# Altium schematic symbol library MasterLib.SchLib: 220 symbols (part 1 of 2)
Pins are listed as number, name and electrical type; pins without a type are passive.

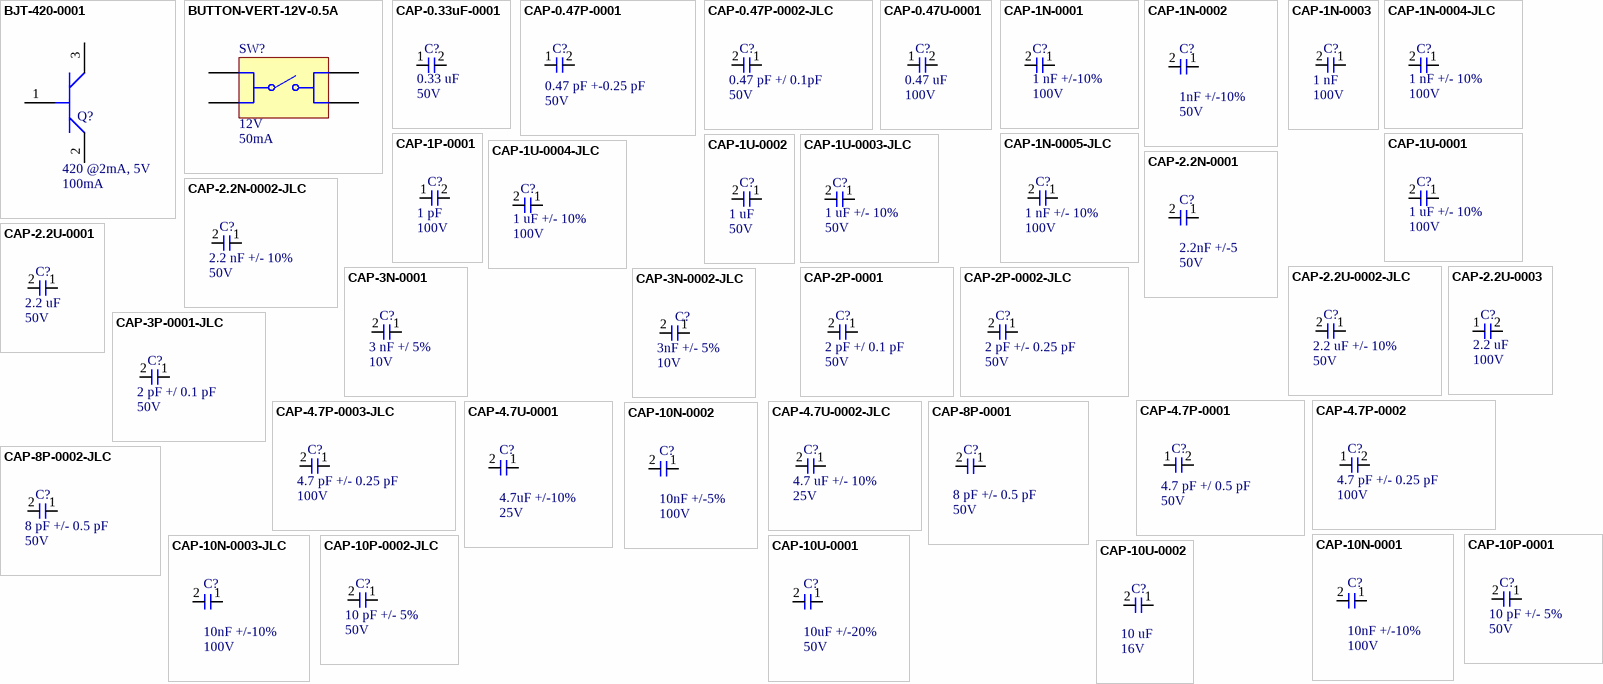
[diagram p0: symbols BJT-420-0001 to CAP-10U-0002]

## BJT-420-0001
designator Q?, comment hFE: 420 @2mA, 5V  Ic: 100mA  (hidden comment: BC847C,235)
Bipolar (BJT) Transistor NPN 45 V 100 mA 100MHz 250 mW Surface Mount TO-236AB; VCEO: 45V; Transistor type: NPN; Package: TO-236AB
footprint NPN-420-0001
pins: 1, 2, 3

## BUTTON-VERT-12V-0.5A
designator SW?, comment Rated Current: 50mA  Rated Voltage (DC): 12V  (hidden comment: 430182095816)
WS-TASV SMT Tact Switch, 6mm x 6mm, 160gf, SPST-NO, 12V, 50mA; Manufacturer: Wurth Elektronik; Washable: No; Manufacturer Part Number: 430182095816; Category: Tact Switch; Match Code: WS-TASV; ComponentLink1Description: Website Link; ComponentLink1URL: https://www.we-online.com/redexpert/article/430182095816?ad; ComponentLink2Description: Datasheet Link; ComponentLink2URL: https://www.we-online.com/redexpert/spec/430182095816?ad; Mount: Surface Mount; Min Operating Temperature: -40°C; Max Operating Temperature: 85°C; Packaging: Tape and Reel; Length: 6mm; Width: 6mm; Height: 9.5mm; Circuit: SPST-NO; Contact Material: Stainless Steel; Contact Plating: Silver; Operation Force: 160gf; Terminal Material: Copper Alloy; Terminal Plating: Silver
footprint 430182095816
pins: A1, A2, B1, B2

## CAP-0.33uF-0001
designator C?, comment Capacitance: 0.33 uF  Voltage: 50V  (hidden comment: CGA3E3X7R1H334K080AB)
0.33 µF ±10% 50V Ceramic Capacitor X7R 0603 (1608 Metric); Manufacturer: TDK Corporation; Tolerance: +/- 10%; Manufacturer Part Number: CGA3E3X7R1H334K080AB; Temperature Coefficient: X7R
footprint CAP-0603
pins: 1, 2

## CAP-0.47P-0001
designator C?, comment Capacitance: 0.47 pF +-0.25 pF  Voltage Rating: 50V  (hidden comment: CC0603CRNPO9BNR47)
0.47 pF ±0.25pF 50V Ceramic Capacitor C0G, NP0 0603 (1608 Metric); Manufacturer: YAGEO; Assembled?: Yes; Package Size: 0603; Temperature Coefficient: C0G, NP0; Manufacturere Part Number: CC0603CRNPO9BNR47
footprint CAP-0603
pins: 1, 2

## CAP-0.47P-0002-JLC
designator C?, comment Capacitance: 0.47 pF +/ 0.1pF  Parameter 2: 50V  (hidden comment: CC0402BRNPO9BNR47)
50V 0.47pF NP0 ±0.1pF 0402 Multilayer Ceramic Capacitors MLCC - SMD/SMT ROHS; assembled?: yes; JLC part number: C114389
footprint CAP-0402
pins: 1, 2

## CAP-0.47U-0001
designator C?, comment Capacitance: 0.47 uF  Voltage: 100V  (hidden comment: KAM21KR72A474KL)
0.47 µF ±10% 100V Ceramic Capacitor X7R 0805 (2012 Metric); Tolerance: +/- 10%; Assembled?: No; Temperature Coefficient: X7R; Package Size: 0805
footprint CAP-0805
pins: 1, 2

## CAP-1N-0001
designator C?, comment Capacitance: 1 nF +/-10%  Voltage: 100V  (hidden comment: C0603Y102K1RAC7867)
1000 pF ±10% 100V Ceramic Capacitor X7R 0603 (1608 Metric)
footprint CAP-0603
pins: 1, 2

## CAP-1N-0002
designator C?, comment Capacitance: 1nF +/-10%  Voltage Rating: 50V  (hidden comment: CC0402KPX7R9BB102)
1000 pF ±10% 50V Ceramic Capacitor X7R 0402 (1005 Metric); Manufacturer: YAGEO; Assembled?: no; Manufacturer Part Number: CC0402KPX7R9BB102; Temperature Coefficient: X7R; Package Size: 0402
footprint CAP-0402
pins: 1, 2

## CAP-1N-0003
designator C?, comment Capacitance: 1 nF  Voltage Rating: 100V  (hidden comment: CDR01BX102BKUS7185)
1000 pF ±10% 100V Ceramic Capacitor BX 0805 (2012 Metric); Package Size: 0805
footprint CAP-0805
pins: 1, 2

## CAP-1N-0004-JLC
designator C?, comment Capacitance: 1 nF +/- 10%  Voltage: 100V  (hidden comment: C0402C102K1GECAUTO)
100V 1nF C0G ±10% 0402 Multilayer Ceramic Capacitors MLCC - SMD/SMT ROHS; assembled?: yes; JLC part number: C696348
footprint CAP-0402
pins: 1, 2

## CAP-1N-0005-JLC
designator C?, comment Capacitance: 1 nF +/- 10%  Voltage: 100V  (hidden comment: GCM155R72A102KA37D)
100V 1nF X7R ±10% 0402 Multilayer Ceramic Capacitors MLCC - SMD/SMT ROHS; assembled?: yes; JLC part number: C126538
footprint CAP-0402
pins: 1, 2

## CAP-1P-0001
designator C?, comment Capacitance: 1 pF  Voltage: 100V  (hidden comment: 885012006087)
1 pF ±0.25pF 100V Ceramic Capacitor C0G, NP0 0603 (1608 Metric); Tolerance: +/- 0.25 pF; Temperature Coefficient: C0G/NP0; Assembled?: No; Package Size: 0603
footprint CAP-0603
pins: 1, 2

## CAP-1U-0001
designator C?, comment Capacitance: 1 uF +/- 10%  Voltage: 100V  (hidden comment: CL31B105KCHNNNE)
1 µF ±10% 100V Ceramic Capacitor X7R 1206 (3216 Metric)
footprint CAP-1206 - duplicate
pins: 1, 2

## CAP-1U-0002
designator C?, comment Capacitance: 1 uF  Voltage: 50V  (hidden comment: UMK107AB7105KA-T)
1 µF ±10% 50V Ceramic Capacitor X7R 0603 (1608 Metric); Package Size: 0603
footprint CAP-0603
pins: 1, 2

## CAP-1U-0003-JLC
designator C?, comment Cap: 1 uF +/- 10%  Voltage: 50V  (hidden comment: GCM21BR71H105KA03L)
50V 1uF X7R ±10% 0805 Multilayer Ceramic Capacitors MLCC - SMD/SMT ROHS; assembled?: yes; JLC Part Number: C126592
footprint CAP-0805
pins: 1, 2

## CAP-1U-0004-JLC
designator C?, comment Capacitance: 1 uF +/- 10%  Voltage: 100V  (hidden comment: C1206X105K101T)
100V 1uF X7R ±10% 1206 Multilayer Ceramic Capacitors MLCC - SMD/SMT ROHS; assembled: yes; JLC Part Number: C106026
footprint CAP-1206 - duplicate
pins: 1, 2

## CAP-2.2N-0001
designator C?, comment Capacitance: 2.2nF +/-5  Voltage Rating: 50V  (hidden comment: CC0402JRX7R9BB222)
2200 pF ±5% 50V Ceramic Capacitor X7R 0402 (1005 Metric); Manufacturer: YAGEO; Assembled?: no; Manufacturer Part Number: CC0402JRX7R9BB222; Temperature Coefficient: X7R; Package Size: 0402
footprint CAP-0402
pins: 1, 2

## CAP-2.2N-0002-JLC
designator C?, comment Capacitance: 2.2 nF +/- 10%  Voltage: 50V  (hidden comment: GCM155R71H222KA37D)
50V 2.2nF X7R ±10% 0402 Multilayer Ceramic Capacitors MLCC - SMD/SMT ROHS; assembled: yes; JLC part number: C126534
footprint CAP-0402
pins: 1, 2

## CAP-2.2U-0001
designator C?, comment Capacitance: 2.2 uF  oltage: 50V  (hidden comment: UMK107BBJ225KA-T)
2.2 µF ±10% 50V Ceramic Capacitor X5R 0603 (1608 Metric)
footprint CAP-0603
pins: 1, 2

## CAP-2.2U-0002-JLC
designator C?, comment Capacitance: 2.2 uF +/- 10%  Voltage: 50V  (hidden comment: CC0805KKX7R9BB225)
50V 2.2uF X7R ±10% 0805 Multilayer Ceramic Capacitors MLCC - SMD/SMT ROHS; assembled: yes; JLC part number: C125847
footprint CAP-0805
pins: 1, 2

## CAP-2.2U-0003
designator C?, comment Capacitance: 2.2 uF  Voltage: 100V  (hidden comment: CL31B225KCHSNNE)
2.2 µF ±10% 100V Ceramic Capacitor X7R 1206 (3216 Metric); Manufacturer: Samsung Electro-Mechanics; Tolerance: +/- 10%; Assembled?: No; Manufacturer Part Number: CL31B225KCHSNNE; Temperature Coefficient: X7R; Package Size: 1206
footprint CAP-1206
pins: 1, 2

## CAP-2P-0001
designator C?, comment Capacitance: 2 pF +/ 0.1 pF  Voltage: 50V  (hidden comment: CC0402BRNPO9BN2R0)
2 pF ±0.1pF 50V Ceramic Capacitor C0G, NP0 0402 (1005 Metric)
footprint CAP-0402
pins: 1, 2

## CAP-2P-0002-JLC
designator C?, comment Cap: 2 pF +/- 0.25 pF  Voltage: 50V  (hidden comment: GJM1555C1H2R0CB01D)
50V 2pF C0G ±0.25pF 0402 Multilayer Ceramic Capacitors MLCC - SMD/SMT ROHS; assembled: yes; JLC part number: C85879
footprint CAP-0402
pins: 1, 2

## CAP-3N-0001
designator C?, comment Capacitance: 3 nF +/ 5%  Voltagev: 10V  (hidden comment: GRM1557U1A302JA01D)
3000 pF ±5% 10V Ceramic Capacitor U2J 0402 (1005 Metric)
footprint CAP-0402
pins: 1, 2

## CAP-3N-0002-JLC
designator C?, comment Capacitance: 3nF +/- 5%  Voltage: 10V  (hidden comment: GRM1557U1A302JA01D)
10V 3nF U2J ±5% 0402 Multilayer Ceramic Capacitors MLCC - SMD/SMT ROHS; assembled: yes; JLC part number: C162145
footprint CAP-0402
pins: 1, 2

## CAP-3P-0001-JLC
designator C?, comment Capacitance: 2 pF +/ 0.1 pF  Voltage: 50V  (hidden comment: CC0402BRNPO9BN3R0)
50V 3pF NP0 ±0.1pF 0402 Multilayer Ceramic Capacitors MLCC - SMD/SMT ROHS; assembled: yes; JLC Part Number: C327228
footprint CAP-0402
pins: 1, 2

## CAP-4.7P-0001
designator C?, comment Capacitance: 4.7 pF +/ 0.5 pF  Voltage Rating: 50V  (hidden comment: 06035A4R7DAT2A)
4.7 pF ±0.5pF 50V Ceramic Capacitor C0G, NP0 0603 (1608 Metric); Manufacturer: KYOCERA AVX; Temperature Coefficient: G0G. NP0; Assembled?: Yes; Manufacturer Part Number: 06035A4R7DAT2A; Package Size: 0603
footprint CAP-0603
pins: 1, 2

## CAP-4.7P-0002
designator C?, comment Capacitance: 4.7 pF +/- 0.25 pF  Voltage: 100V  (hidden comment: CC0603CRNPO0BN4R7)
4.7 pF ±0.25pF 100V Ceramic Capacitor C0G, NP0 0603 (1608 Metric)
footprint CAP-0603
pins: 1, 2

## CAP-4.7P-0003-JLC
designator C?, comment capacitance: 4.7 pF +/- 0.25 pF  Voltage: 100V  (hidden comment: CC0603CRNPO0BN4R7)
100V 4.7pF NP0 ±0.25pF 0603 Multilayer Ceramic Capacitors MLCC - SMD/SMT ROHS; assembled: yes; JLC part number: C527037
footprint CAP-0603
pins: 1, 2

## CAP-4.7U-0001
designator C?, comment Capacitance: 4.7uF +/-10%  Voltage Rating: 25V  (hidden comment: TMK107BBJ475KA-T)
4.7 µF ±10% 25V Ceramic Capacitor X5R 0603 (1608 Metric); Manufacturer: Taiyo Yuden; Assembled?: no; Manufacturer Part Number: TMK107BBJ475KA-T; Temperature Coefficient: X5R; Package Size: 0603
footprint CAP-0603
pins: 1, 2

## CAP-4.7U-0002-JLC
designator C?, comment Capacitacen: 4.7 uF +/- 10%  Voltage: 25V  (hidden comment: CC0603KRX5R8BB475)
25V 4.7uF X5R ±10% 0603 Multilayer Ceramic Capacitors MLCC - SMD/SMT ROHS; assembled: yes; JLC part number: C326580
footprint CAP-0603
pins: 1, 2

## CAP-8P-0001
designator C?, comment Capacitance: 8 pF +/- 0.5 pF  Voltage: 50V  (hidden comment: CC0603DRNPO9BN8R0)
8 pF ±0.5pF 50V Ceramic Capacitor C0G, NP0 0603 (1608 Metric); Package Size: 0603
footprint CAP-0603
pins: 1, 2

## CAP-8P-0002-JLC
designator C?, comment Capaitance: 8 pF +/- 0.5 pF  Parameter 2: 50V  (hidden comment: CC0402DRNPO9BN8R0)
50V 8pF NP0 ±0.5pF 0402 Multilayer Ceramic Capacitors MLCC - SMD/SMT ROHS; assembled: yes; JLC part number: C327227
footprint CAP-0402
pins: 1, 2

## CAP-10N-0001
designator C?, comment Capacitance: 10nF +/-10%  Voltage Rating: 100V  (hidden comment: CC0402KRX7R0BB103)
10000 pF ±10% 100V Ceramic Capacitor X7R 0402 (1005 Metric); Manufacturer: YAGEO; Assembled?: no; Manufacturer Part Number: CC0402KRX7R0BB103; Temperature Coefficient: X7R; Package Size: 0402
footprint CAP-0402
pins: 1, 2

## CAP-10N-0002
designator C?, comment Capacitance: 10nF +/-5%  Voltage Rating: 100V  (hidden comment: C1608C0G2A103J080AC)
CAP CER 10000PF 100V C0G 0603; Manufacturer: TDK Corporation; Temperature Coefficient: C0G/NP0; Assembled?: no; Manufacturer Part Number: C1608C0G2A103J080AC; Package Size: 0603
footprint CAP-0603
pins: 1, 2

## CAP-10N-0003-JLC
designator C?, comment Capacitance: 10nF +/-10%  Voltage Rating: 100V  (hidden comment: CC0603KRX7R0BB103)
100V 10nF X7R ±10% 0603 Multilayer Ceramic Capacitors MLCC - SMD/SMT ROHS; Manufacturer: Yageo; Assembled?: yes; Manufacturer Part Number: CC0603KRX7R0BB103; Temperature Coefficient: X7R; Package Size: 0603; JLC Part Number: C107059
footprint CAP-0603
pins: 1, 2

## CAP-10P-0001
designator C?, comment Capacitance: 10 pF +/- 5%  Voltage Rating: 50V  (hidden comment: 0603N100J500CT)
10 pF ±5% 50V Ceramic Capacitor C0G, NP0 0603 (1608 Metric); Manufacturer: Walshin Technology Corporation; Assembled?: Yes; Manufacturer Part Number: 0603N100J500CT; Temperature Coefficient: C0G, NP0; Package Size: 0603
footprint CAP-0603
pins: 1, 2

## CAP-10P-0002-JLC
designator C?, comment Capacitance: 10 pF +/- 5%  Voltage Rating: 50V  (hidden comment: CC0402JRNPO9BN100)
50V 10pF NP0 ±5% 0402 Multilayer Ceramic Capacitors MLCC - SMD/SMT ROHS; Manufacturer: Yageo; Temperature Coefficient: C0G, NP0; Assembled?: Yes; Manufacturer Part Number: CC0402JRNPO9BN100; Package Size: 0402; JLC Part Number: C106199
footprint CAP-0402
pins: 1, 2

## CAP-10U-0001
designator C?, comment Capacitance: 10uF +/-20%  Voltage Rating: 50V  (hidden comment: CL31B106KBHNNNE)
10 µF ±10% 50V Ceramic Capacitor X7R 1206 (3216 Metric); Manufacturer: Samsung Electro-Mechanics; Assembled?: no; Manufacturer Part Number: CL31B106KBHNNNE; Temperature Coefficient: X7R; Package Size: 1206
footprint CAP-1206
pins: 1, 2

## CAP-10U-0002
designator C?, comment Capacitance: 10 uF  Voltage Rating: 16V  (hidden comment: CL21A106KOQNNNE)
10 µF ±10% 16V Ceramic Capacitor X7R 0805 (2012 Metric); Package Size: 0805
footprint CAP-0805
pins: 1, 2

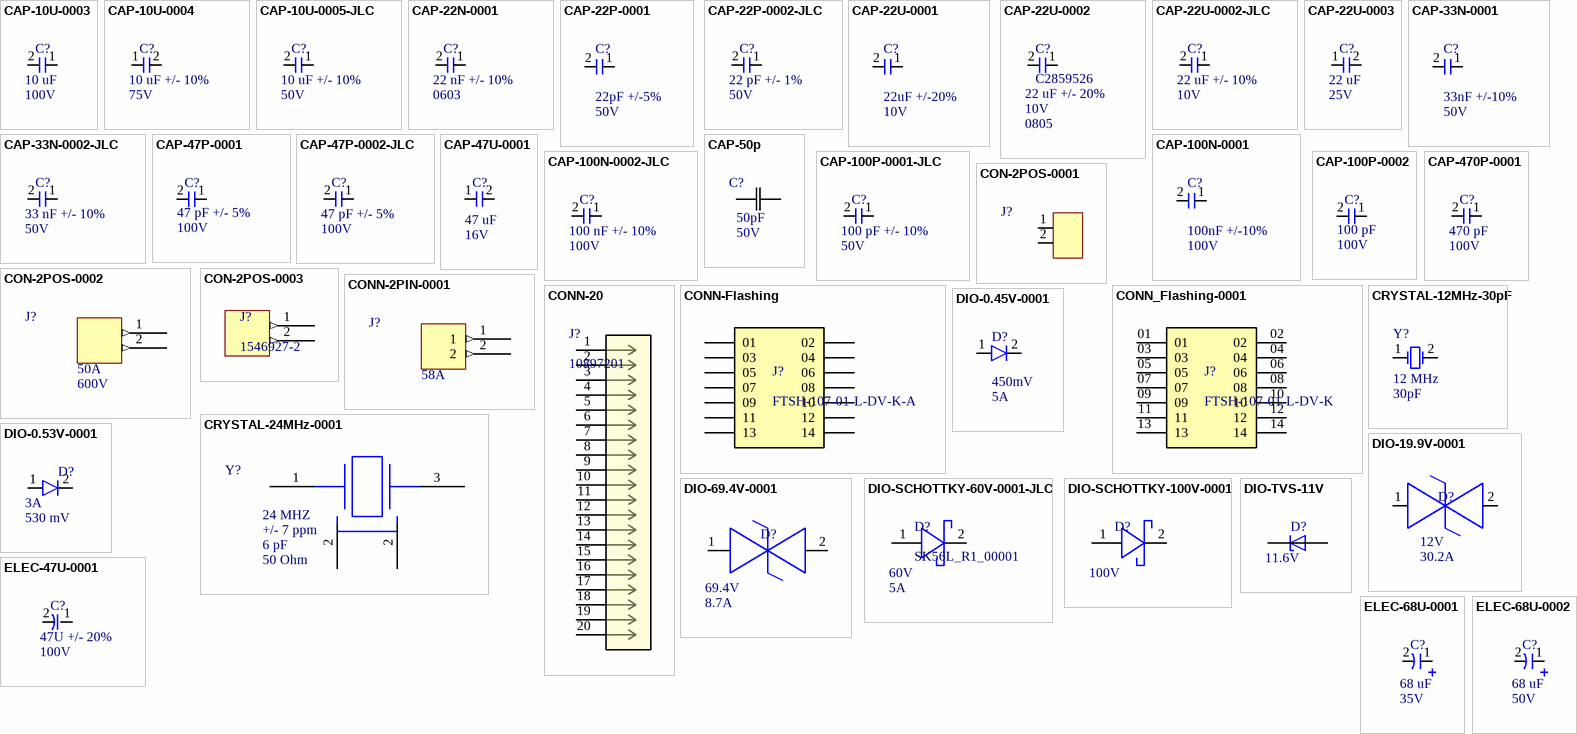
[diagram p1: symbols CAP-10U-0003 to ELEC-68U-0002]

## CAP-10U-0003
designator C?, comment Capcitance: 10 uF  Voltage Rating: 100V  (hidden comment: GRM32EC72A106KE05L)
10 µF ±10% 100V Ceramic Capacitor X7S 1210 (3225 Metric); Package Size: 1210
footprint CAP-1210
pins: 1, 2

## CAP-10U-0004
designator C?, comment Capacitance: 10 uF +/- 10%  Voltage Rating: 75V  (hidden comment: C3225X7R1N106K250AC)
10 µF ±10% 75V Ceramic Capacitor X7R 1210 (3225 Metric)
footprint CAP-1210
pins: 1, 2

## CAP-10U-0005-JLC
designator C?, comment Capacitance: 10 uF +/- 10%  Voltage: 50V  (hidden comment: CL32A106KBJNNNE)
50V 10uF X5R ±10% 1210 Multilayer Ceramic Capacitors MLCC - SMD/SMT ROHS; jlc part number: C380537; jlc?: yes
footprint CAP-1210
pins: 1, 2

## CAP-22N-0001
designator C?, comment Capacitance: 22 nF +/- 10%  Package Size: 0603  (hidden comment: C0603C223K3RAC7867)
0.022 µF ±10% 25V Ceramic Capacitor X7R 0603 (1608 Metric)
footprint CAP-0603
pins: 1, 2

## CAP-22P-0001
designator C?, comment Capacitance: 22pF +/-5%  Voltage Rating: 50V  (hidden comment: GRT1555C1H220JA02J)
22 pF ±5% 50V Ceramic Capacitor C0G, NP0 0402 (1005 Metric); Manufacturer: Murata; Temperature Coefficient: C0G/NP0; Assembled?: no; Manufacturer Part Number: GRT1555C1H220JA02J; Package Size: 0402
footprint CAP-0402
pins: 1, 2

## CAP-22P-0002-JLC
designator C?, comment Capacitance: 22 pF +/- 1%  Voltage: 50V  (hidden comment: CC0402FRNPO9BN220)
50V 22pF NP0 ±1% 0402 Multilayer Ceramic Capacitors MLCC - SMD/SMT ROHS; assembled?: yes; JLC part number: C277482
footprint CAP-0402
pins: 1, 2

## CAP-22U-0001
designator C?, comment Capacitance: 22uF +/-20%  Voltage Rating: 10V  (hidden comment: CL31B226MPHNNNE)
22 µF ±20% 10V Ceramic Capacitor X7R 1206 (3216 Metric); Manufacturer: Samsung Electro-Mechanics; Assembled?: no; Manufacturer Part Number: CL31B226MPHNNNE; Temperature Coefficient: X7R; Package Size: 1206
footprint CAP-1206
pins: 1, 2

## CAP-22U-0002
designator C?, comment C2859526  Capacitance: 22 uF +/- 20%  Voltage: 10V  Package Size: 0805
22uF 10V 5Ω ±20% 0805  Tantalum Capacitors ROHS
footprint CAP-0805
pins: 1, 2

## CAP-22U-0002-JLC
designator C?, comment Capacitance: 22 uF +/- 10%  Voltage: 10V  (hidden comment: LMK316AB7226KL-TR)
10V 22uF X7R ±10% 1206 Multilayer Ceramic Capacitors MLCC - SMD/SMT ROHS; assembled?: yes; JLC part number: C386064
footprint CAP-1206 - duplicate
pins: 1, 2

## CAP-22U-0003
designator C?, comment Capacitance: 22 uF  Voltage: 25V  (hidden comment: CL32B226KAJNNNE)
22 µF ±10% 25V Ceramic Capacitor X7R 1210 (3225 Metric); Tolerance: +/- 10%; Assembled?: No; Temperature Coefficient: X7R; Package Size: 1210
footprint CAP-1210
pins: 1, 2

## CAP-33N-0001
designator C?, comment Capacitance: 33nF +/-10%  Voltage Rating: 50V  (hidden comment: CC0603KRX7R9BB333)
0.033 µF ±10% 50V Ceramic Capacitor X7R 0603 (1608 Metric); Manufacturer: YAGEO; Assembled?: no; Manufacturer Part Number: CC0603KRX7R9BB333; Temperature Coefficient: X7R; Package Size: 0603
footprint CAP-0603
pins: 1, 2

## CAP-33N-0002-JLC
designator C?, comment Capacitance: 33 nF +/- 10%  Voltage: 50V  (hidden comment: GRM155R71H333KE14D)
50V 33nF X7R ±10% 0402  Multilayer Ceramic Capacitors MLCC - SMD/SMT ROHS; assembled?: yes; JLC part number: C415530
footprint CAP-0402
pins: 1, 2

## CAP-47P-0001
designator C?, comment Capacitance: 47 pF +/- 5%  Voltage Rating: 100V  (hidden comment: 7447798111)
47 pF ±5% 100V Ceramic Capacitor C0G, NP0 0603 (1608 Metric)
footprint CAP-0603
pins: 1, 2

## CAP-47P-0002-JLC
designator C?, comment Capacitance: 47 pF +/- 5%  Voltage: 100V  (hidden comment: CC0402JRNPO0BN470)
100V 47pF NP0 ±5% 0402  Multilayer Ceramic Capacitors MLCC - SMD/SMT ROHS; assembled?: yes; JLC part number: C576703
footprint CAP-0402
pins: 1, 2

## CAP-47U-0001
designator C?, comment Capacitance: 47 uF  Voltage: 16V  (hidden comment: GRM32ER61C476KE15L)
47 µF ±10% 16V Ceramic Capacitor X5R 1210 (3225 Metric); Manufacturer: Murata Electronics; Tolerance: +/- 10%; Assembled?: no; Manufacturer Part Number: GRM32ER61C476KE15L; Package Size: 1210
footprint CAP-1210
pins: 1, 2

## CAP-50p
designator C?, comment Capacitance: 50pF  Voltage: 50V  (hidden comment: CC0402JRNPO9BN500)
50 pF ±5% 50V Ceramic Capacitor C0G, NP0 0402 (1005 Metric); Manufacturer_Name: Yageo; Copyright: Copyright (C) 2025 Ultra Librarian. All rights reserved.; Manufacturer_Part_Number: CC0402JRNPO9BN500; ComponentLink1Description: Datasheet; ComponentLink1URL: https://www.yageo.com/en/Chart/Download/pdf/CC0402JRNPO9BN500
footprint CAP_CC0402_YAG
pins: 1, 2

## CAP-100N-0001
designator C?, comment Capacitance: 100nF +/-10%  Voltage Rating: 100V  (hidden comment: CC0603KRX7R0BB104)
CAP CER 0.1UF 100V X7R 0603; Manufacturer: YAGEO; Assembled?: no; Manufacturer Part Number: CC0603KRX7R0BB104; Temperature Coefficient: X7R; Package Size: 0603
footprint CAP-0603
pins: 1, 2

## CAP-100N-0002-JLC
designator C?, comment Capacitance: 100 nF +/- 10%  Voltage: 100V  (hidden comment: CC0603KRX7R0BB104)
100V 100nF X7R ±10% 0603 Multilayer Ceramic Capacitors MLCC - SMD/SMT ROHS; assembled?: yes; JLC Part Number: C113803
footprint CAP-0603
pins: 1, 2

## CAP-100P-0001-JLC
designator C?, comment Capacitance: 100 pF +/- 10%  Voltage: 50V  (hidden comment: 0402B101K500NT)
50V 100pF X7R ±10% 0402 Multilayer Ceramic Capacitors MLCC - SMD/SMT ROHS; assembled?: yes; JLC part number: C2991538
footprint CAP-0402
pins: 1, 2

## CAP-100P-0002
designator C?, comment Capacitance: 100 pF  Voltage: 100V  (hidden comment: 0603N101J101CT)
100 pF ±5% 100V Ceramic Capacitor C0G, NP0 0603 (1608 Metric); Tolerance: +/-5%; Temp Coeff: C0G/NP0; Package Size: 0603
footprint CAP-0603
pins: 1, 2

## CAP-470P-0001
designator C?, comment Capacitance: 470 pF  voltage: 100V  (hidden comment: 0603B471K101CT)
470 pF ±10% 100V Ceramic Capacitor X7R 0603 (1608 Metric); Assembled?: No; TOlerance: 10%; Package Size: 0603
footprint CAP-0603
pins: 1, 2

## CON-2POS-0001
designator J?, comment Pin Header 2POS  (value not drawn)
Assembled?: no; Rows: 1; Pins: 2
footprint CON-2POS-0001
pins: 1, 2

## CON-2POS-0002
designator J?, comment Current: 50A  Voltage: 600V  (hidden comment: 0389690002)
2 Circuit 0.500" (12.70mm) Barrier Block Connector Screws with Captive Plate
footprint CON-2POS-0002
pins: 1 (out), 2 (out)

## CON-2POS-0003
designator J?, comment 1546927-2
footprint CONN-1546927-2
pins: 1 (out), 2 (out)

## CONN-2PIN-0001
designator J?, comment Current Rating: 58A  (hidden comment: *691256610002)
2 Position Wire to Board Terminal Block Horizontal with Board 0.400" (10.16mm) Through Hole; Number of Inputs: 2
footprint CONN-2PIN-0001
pins: 1 (out), 2 (out)

## CONN-20
designator J?, comment 10897201
2.54mm Pitch C-Grid Breakaway Header, Dual Row, Vertical, High Temperature, 20 Circuits, Tin (Sn) Plating, 2.72mm PC Tail Length; Manufacturer_Name: Molex Connector Corporation; Copyright: Copyright (C) 2025 Ultra Librarian. All rights reserved.; Manufacturer_Part_Number: 10897201; Datasheet: https://www.molex.com/en-us/products/part-detail-pdf/10897201?display=pdf; RefDes: RefDes; Type: Type
footprint CONN20_0010897201_MOL
pins: 1, 2, 3, 4, 5, 6, 7, 8, 9, 10, 11, 12, 13, 14, 15, 16, 17, 18, 19, 20

## CONN-Flashing
designator J?, comment FTSH-107-01-L-DV-K-A
Connector Header Surface Mount 14 position 0.050 (1.27mm); MF: Samtec Inc.; SnapEDA_Link: https://www.snapeda.com/parts/FTSH-107-01-L-DV-K-A/Samtec+Inc./view-part/?ref=snap; Package: None; Value: *; MP: FTSH-107-01-L-DV-K-A; Check_prices: https://www.snapeda.com/parts/FTSH-107-01-L-DV-K-A/Samtec+Inc./view-part/?ref=eda; ComponentLink1Description: Datasheet; ComponentLink1URL: https://mm.digikey.com/Volume0/opasdata/d220001/medias/docus/6209/ftsh-1xx-xx-xxx-dv-xxx-xxx-x-xx-mkt.pdf?_gl=1*1c8qhrp*_up*MQ..*_gs*MQ..&gclid=Cj0KCQjwndHEBhDVARIsAGh0g3BhbAROHH0tQxim6dYiCi7CVIKM-WvKYR8T8zWoEwepZ3CPXWTcBI4aAtXsEALw_wcB&gclsrc=aw.ds&gbraid=0AAAAADrbLlju0DZp9CUD_BKsHNp-CszV5
footprint SAMTEC_FTSH-107-01-L-DV-K-A
pins: 01, 02, 03, 04, 05, 06, 07, 08, 09, 10, 11, 12, 13, 14

## CONN_Flashing-0001
designator J?, comment FTSH-107-01-L-DV-K
Connector Header Surface Mount 14 position 0.050" (1.27mm); MF: Samtec; Value: *; Price: None; Package: None; Availability: Unavailable; MP: FTSH-107-01-L-DV-K; ComponentLink1Description: Datasheet; ComponentLink1URL: https://mm.digikey.com/Volume0/opasdata/d220001/medias/docus/6209/ftsh-1xx-xx-xxx-dv-xxx-xxx-x-xx-mkt.pdf
footprint SAMTEC_FTSH-107-01-L-DV-K
pins: 01, 02, 03, 04, 05, 06, 07, 08, 09, 10, 11, 12, 13, 14

## CRYSTAL-12MHz-30pF
designator Y?, comment Load Capacitance: 30pF  Frequency: 12 MHz  (hidden comment: 830010043)
WE-XTAL Quartz Crystal, SMT, HC49/4HSMX, 12 MHz, ±30ppm; Manufacturer: Wurth Elektronik; Frequency Stability: 50ppm; Manufacturer Part Number: 830010043; Category: Crystals; Match Code: WE-XTAL; ComponentLink1Description: Website Link; ComponentLink1URL: https://www.we-online.com/redexpert/article/830010043?ad; ComponentLink2Description: Datasheet Link; ComponentLink2URL: https://www.we-online.com/redexpert/spec/830010043?ad; Mount: Surface Mount; Min Operating Temperature: -10°C; Max Operating Temperature: 60°C; Packaging: Tape and Reel; Case/Size Code: HC49/4HSMX; Length: 12.4mm; Width: 4.7mm; Height: 4.5mm; Application: Processor, USB, CAN; Frequency Tolerance: ±30ppm
footprint WE-XTAL_HC49/4HSMX
pins: 1 OSC1, 2 OSC2

## CRYSTAL-24MHz-0001
designator Y?, comment Frequency: 24 MHZ  Frequency Tolerance: +/- 7 ppm  Load Capacitance: 6 pF  Equavalence Series Resistance: 50 Ohm  (hidden comment: ECS-240-6-37B-7KM-TR)
24 MHz ±7ppm Crystal 6pF 50 Ohms 4-SMD, No Lead; Manufacturer: ECS Inc.; Manufacturer Part Number: ECS-240-6-37B-7KM-TR; Package Size: 4-SMD
footprint CRYSTAL-4-SMD-0001
pins: 1, 2, 2, 3

## DIO-0.45V-0001
designator D?, comment Vf: 450mV  Current Rating: 5A  (hidden comment: RB081LAM-20TR)
Diode Schottky 20 V 5A Surface Mount PMDTM; Manufacturer: Rohm Semiconductor; Assembled?: no; Breakdown Voltage: 20V; Manufacturer Part Number: RB081LAM-20TR; Package: SOD-128
footprint DIO-SOD128
pins: 1, 2

## DIO-0.53V-0001
designator D?, comment Current Rating: 3A  Vf (Voltage Forward): 530 mV  (hidden comment: PMEG6030EP,115)
Diode Schottky 60 V 3A Surface Mount SOD-128/CFP5; Manufacturer: Nexperia USA Inc.; Assembled: no; Manufacturer Part Number: PMEG6030EP,115; Package: SOD-128/CFP5
footprint DIO-SOD128
pins: 1, 2

## DIO-19.9V-0001
designator D?, comment Standoff Voltage: 12V  Current Rating: 30.2A  (hidden comment: SMBJ12CA)
19.9V Clamp 30.2A Ipp Tvs Diode Surface Mount DO-214AA (SMBJ); Manufacturer: Littlefuse Inc.; Assembled: No; Breakdown Voltage: 13.3; Manufacturer Part Number: SMBJ12CA; Package: DO-214AA (SMBJ)
footprint DO-214AA (SMBJ)
pins: 1, 2

## DIO-69.4V-0001
designator D?, comment Vclamp: 69.4V  Peak pulser current: 8.7A  (hidden comment: SMBJE43CAH)
69.4V Clamp 8.7A Ipp Tvs Diode Surface Mount DO-214AA (SMBJ); Channels: Bidirectional; Breakdown VOltage: 47.8V; Reverse working maximum voltage: 43V; Package: DO-214AA (SMBJ)
footprint DO-214AA (SMBJ)
pins: 1, 2

## DIO-SCHOTTKY-60V-0001-JLC
designator D?, comment SK56L_R1_00001  Reverse voltage: 60V  Current: 5A
Diode 60 V 5A Surface Mount SMC (DO-214AB); Vf: 500 mA @5A; jlc?: yes; jlc part number: C294834
footprint DO-214AB
pins: 1 5, 2 6

## DIO-SCHOTTKY-100V-0001
designator D?, comment DC Reverse Voltage: 100V  (hidden comment: SK510A-LTP)
Diode 100 V 5A Surface Mount DO-214AC (SMA); Forward Voltage: 850mV @ 5A; Current: 5A
footprint DIO-SCHOTTKY-100V
pins: 1 5, 2 6

## DIO-TVS-11V
designator D?, comment Voltage: 11.6V  (hidden comment: ESDA7P60-1U1M)
TVS DIODE 5VWM 11.6VC 1610; MF: {'manufacturer': u'STMicroelectronics'}; Package: None; Price: None; Value: *; MP: ESDA7P60-1U1M; Availability: Unavailable; ComponentLink1Description: Datasheet; ComponentLink1URL: https://www.st.com/resource/en/datasheet/esda20p50-1u1m.pdf
footprint TVS_ESDA7P60-1U1M
pins: 1, 2

## ELEC-47U-0001
designator C?, comment Capacitance: 47U +/- 20%  Voltage: 100V  (hidden comment: 100SGV47M12.5X13.5)
47 µF 100 V Aluminum Electrolytic Capacitors Radial, Can - SMD 2000 Hrs @ 105°C
footprint ELEC-47U-0001
pins: 1, 2

## ELEC-68U-0001
designator C?, comment Capacitance: 68 uF  Voltage: 35V  (hidden comment: *UUD1V680MCL1GS)
68 µF 35 V Aluminum Electrolytic Capacitors Radial, Can - SMD 2000 Hrs @ 105°C; Tolerance: +/- 20%; Impedance: 340 mOhm; Assembled?: No
footprint ELEC-68U-0001
pins: 1, 2

## ELEC-68U-0002
designator C?, comment Capacitance: 68 uF  Voltage: 50V  (hidden comment: UUD1H680MNL1GS)
68 µF 50 V Aluminum Electrolytic Capacitors Radial, Can - SMD 5000 Hrs @ 105°C; Manufacturer: Nichicon; Tolerance: +/- 20%; Assembled?: No; ESR: 340 mOhm
footprint ELEC-68U-0002
pins: 1, 2

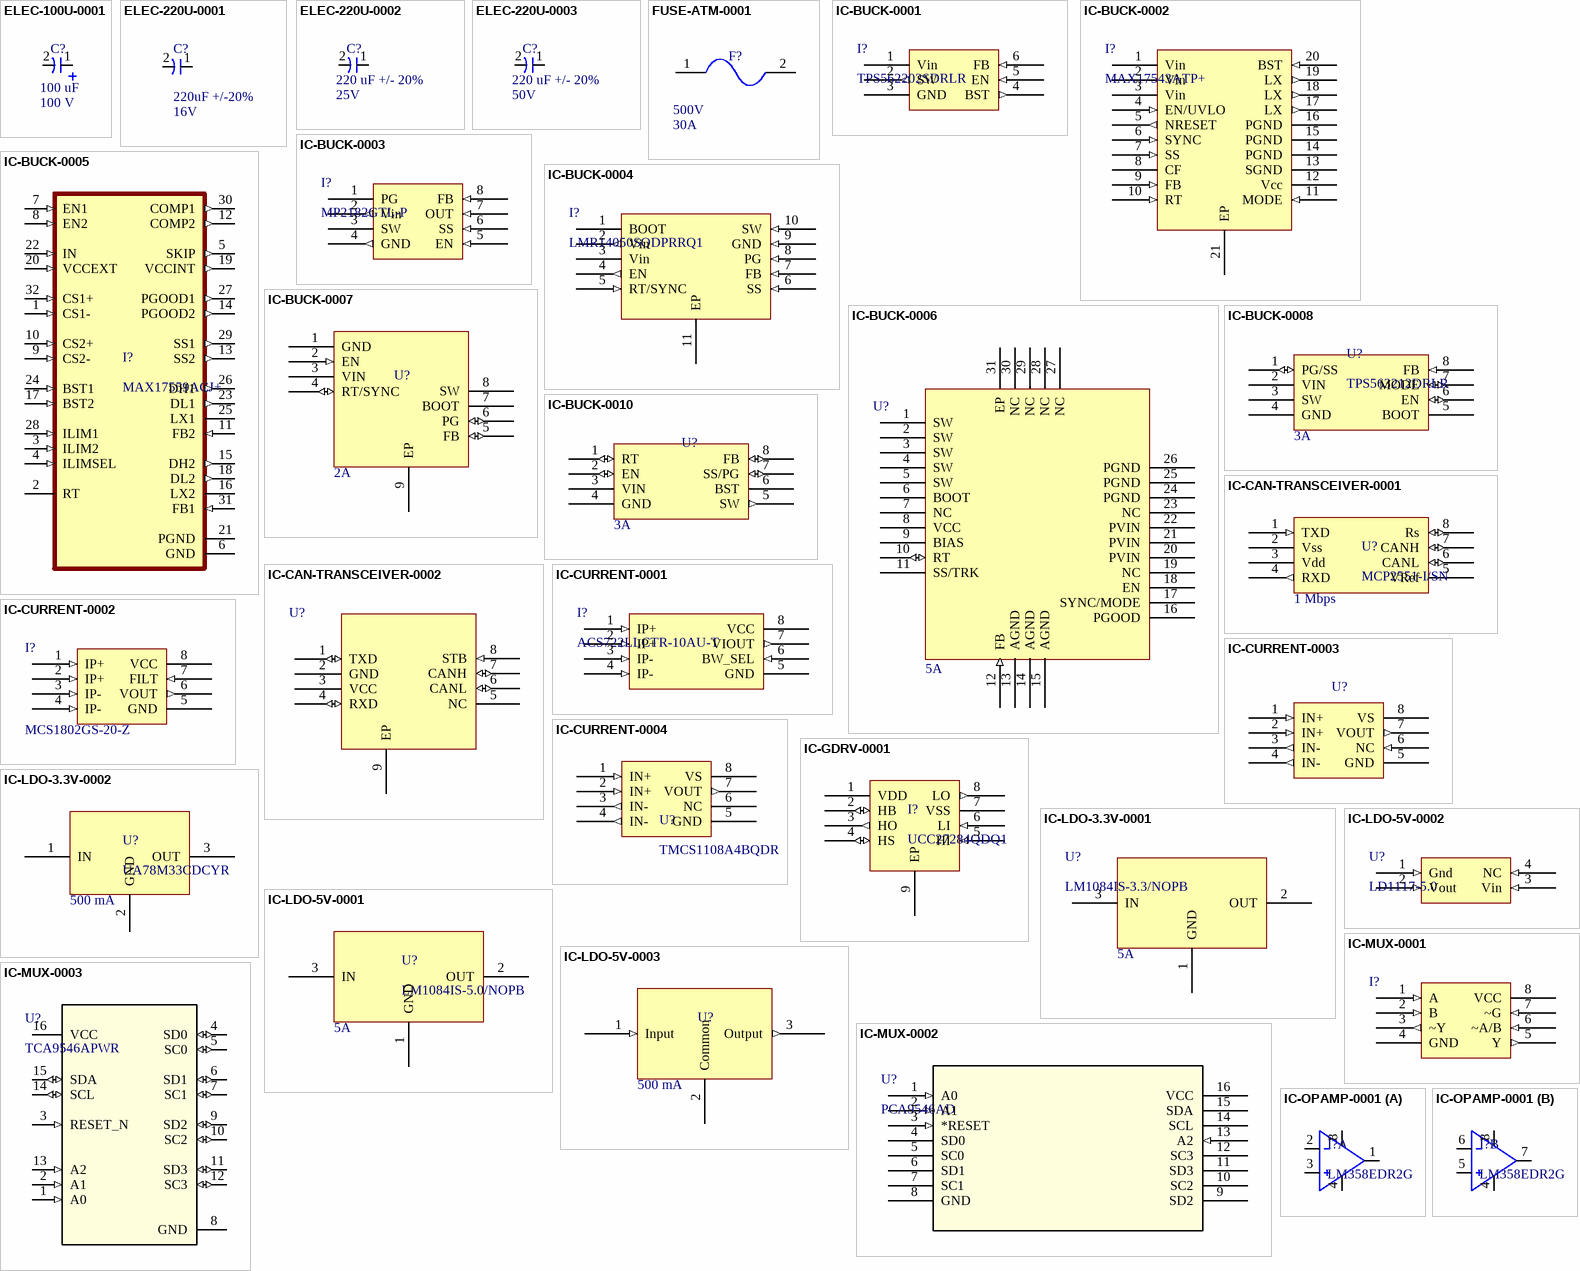
[diagram p2: symbols ELEC-100U-0001 to IC-OPAMP-0001]

## ELEC-100U-0001
designator C?, comment Capacitance: 100 uF  Voltage: 100 V  (hidden comment: 100SEV100M12.5X16)
100 µF 100 V Aluminum Electrolytic Capacitors Radial, Can - SMD 2000 Hrs @ 85°C; Manufacturer: Rubycon; Tolerance: +/- 20%; Assembled?: No; ESR: idk check the datasheet i couldnt find it
footprint ELEC-100U-0001
pins: 1, 2

## ELEC-220U-0001
designator C?, comment Capacitance: 220uF +/-20%  Voltage Rating: 16V  (hidden comment: UUD1C221MCL1GS)
220 µF 16 V Aluminum Electrolytic Capacitors Radial, Can - SMD 2000 Hrs @ 105°C; Manufacturer: Nichicon; Assembled?: no; Manufacturer Part Number: UUD1C221MCL1GS
footprint ELEC-220U-0001
pins: 1, 2

## ELEC-220U-0002
designator C?, comment Capacitance: 220 uF +/- 20%  Voltage: 25V  (hidden comment: 25THV220M8X10.5)
220 µF 25 V Aluminum Electrolytic Capacitors Radial, Can - SMD 300mOhm @ 100kHz 3000 Hrs @ 125°C; SIze: 0.327 in x 0.327 in
footprint ELEC-220U-0002
pins: 1, 2

## ELEC-220U-0003
designator C?, comment Capacitance: 220 uF +/- 20%  Voltage Rating: 50V  (hidden comment: 50TZV220M10X10.5)
220 µF 50 V Aluminum Electrolytic Capacitors Radial, Can - SMD 2000 Hrs @ 105°C; Size: .406inx.406in*.413in
footprint ELEC-220U-0003
pins: 1, 2

## FUSE-ATM-0001
designator F?, comment Voltage Rating: 500V  Current: 30A  (hidden comment: 3568)
Fuse Holder 30 A 500V 1 Circuit Blade Through Hole; Manufacturer Part Number: 3568
footprint FUSE-ATM-0001
pins: 1 0, 2 1

## IC-BUCK-0001
designator I?, comment TPS562202SDRLR
Buck Switching Regulator IC Positive Adjustable 0.804V 1 Output 2A SOT-563, SOT-666; Manufacturer: Texas Instruments; Assembled?: no; VCC-Max: 17V; VCC-Min: 4.3V; Vout-Max: 7V; Vout-Tolerance: +/-5%; Fsw: 580kHz; Manufacturer Part Number: TPS562202SDRLR; Type: Buck; Package: SOT-563; Vout-Min: 0.804V; Output Current-Max: 2A
footprint IC-BUCK-SOT563
pins: 1 Vin (power), 2 SW (out), 3 GND (power), 4 BST (out), 5 EN (in), 6 FB (in)

## IC-BUCK-0002
designator I?, comment MAX17543ATP+
Buck Switching Regulator IC Positive Adjustable 0.9V 1 Output 2.5A 20-WFQFN Exposed Pad; Manufacturer: Maxim Integrated; Assembled?: no; VCC-Max: 42V; VCC-Min: 4.5V; Vout-Min: 37V; Vout-Tolerance: 1.1%; Fsw: 100kHz - 2.2MHz; Manufacturer Part Number: MAX17543; Type: Buck; Package: 20-TQFN; Vout-Max: 0.9V; Output Current-Max: 2.5A
footprint IC-20TQFN
pins: 1 Vin (power), 2 Vin (power), 3 Vin (power), 4 EN/UVLO (in), 5 NRESET (out), 6 SYNC (in), 7 SS (in), 8 CF (power), 9 FB (in), 10 RT (in), 11 MODE (in), 12 Vcc (power), 13 SGND (power), 14 PGND (power), 15 PGND (power), 16 PGND (power), 17 LX (out), 18 LX (out), 19 LX (out), 20 BST (in), 21 EP (power)

## IC-BUCK-0003
designator I?, comment MP2182GTL-P
Buck Switching Regulator IC Positive Adjustable 0.6V 1 Output 2A SOT-583; Manufacturer: Monolithic Power Systems; Assembled?: no; VCC-Max: 5.5V; VCC-Min: 2.5V; Vout-Tolerance: +/-1%; Fsw: 1.2MHz; Manufacturer Part Number: MP2182GTL-P; Type: Buck; Package: SOT-583; Vout-Max: 5.5V; Vout-Min: 0.6V; Output Current-Max: 2A
footprint IC-SOT583
pins: 1 PG (power), 2 Vin (out), 3 SW (power), 4 GND (out), 5 EN (in), 6 SS (in), 7 OUT (in), 8 FB (in)

## IC-BUCK-0004
designator I?, comment LMR14050SQDPRRQ1
Buck Switching Regulator IC Positive Adjustable 0.8V 1 Output 5A 10-WDFN Exposed Pad; Manufacturer: Texas Instruments; Assembled?: no; VCC-Max: 40V; VCC-Min: 4V; Vout-Max: 28V; Fsw: 200kHz-2.2MHz; Manufacturer Part Number: LMR14050SQDPRRQ1; Type: Buck; Package: 10-WSON; Vout-Min: 0.8V; Output Current-Max: 5A
footprint IC-10WSON
pins: 1 BOOT (power), 2 Vin (out), 3 Vin (power), 4 EN (out), 5 RT/SYNC (in), 6 SS (in), 7 FB (in), 8 PG (in), 9 GND (in), 10 SW (in), 11 EP (power)

## IC-BUCK-0005
designator I?, comment MAX17559ACJ+
Buck Regulator Positive Output Step-Down - DC-DC Controller IC 32-TQFP (7x7); MF: Maxim Integrated; SnapEDA_Link: https://www.snapeda.com/parts/MAX17559ACJ+/Maxim+Integrated/view-part/?ref=snap; MP: MAX17559ACJ+; Package: TQFP-32 Maxim; Check_prices: https://www.snapeda.com/parts/MAX17559ACJ+/Maxim+Integrated/view-part/?ref=eda; Value: *; Purchase-URL: https://pricing.snapeda.com/search/part/MAX17559ACJ+/?ref=eda; Digi-Key_Part_Number: MAX17559ACJ+T-ND
footprint IC-BUCK-TQFP-7x7
pins: 1 CS1- (in), 2 RT, 3 ILIM2 (in), 4 ILIMSEL (in), 5 SKIP (out), 6 GND (power), 7 EN1 (in), 8 EN2 (in), 9 CS2- (in), 10 CS2+ (in), 11 FB2 (in), 12 COMP2 (out), 13 SS2 (out), 14 PGOOD2 (out), 15 DH2 (out), 16 LX2, 17 BST2 (in), 18 DL2 (out), 19 VCCINT (out), 20 VCCEXT (in), 21 PGND (power), 22 IN (in), 23 DL1 (out), 24 BST1 (in), 25 LX1, 26 DH1 (out), 27 PGOOD1 (out), 28 ILIM1 (in), 29 SS1 (out), 30 COMP1 (out), 31 FB1 (in), 32 CS1+ (in)

## IC-BUCK-0006
designator U?, comment Current: 5A  (hidden comment: LM76005RNPR)
Buck Switching Regulator IC Positive Adjustable 1V 1 Output 5A 30-WFQFN Exposed Pad; Manufacturer: Texas Instruments; Assembled?: no; Manufacturer Part Number: LM76005RNPR; Type: Buck; Package: 30-WFQFN
footprint IC-30-WQFN(6x4) (30 pin WQFN with exposed pad)
pins: 1 SW (power), 2 SW (power), 3 SW (power), 4 SW (power), 5 SW (power), 6 BOOT (power), 7 NC (power), 8 VCC (power), 9 BIAS (power), 10 RT (io), 11 SS/TRK, 12 FB (in), 13 AGND (power), 14 AGND (power), 15 AGND (power), 16 PGOOD (power), 17 SYNC/MODE (power), 18 EN (power), 19 NC (power), 20 PVIN (power), 21 PVIN (power), 22 PVIN (power), 23 NC (hiz), 24 PGND (power), 25 PGND (power), 26 PGND (power), 27 NC (power), 28 NC (power), 29 NC (power), 30 NC (power), 31 EP (power)

## IC-BUCK-0007
designator U?, comment Current: 2A  (hidden comment: LMR38020SDDAR)
Buck Switching Regulator IC Positive Adjustable 1V 1 Output 2A 8-PowerSOIC (0.154", 3.90mm Width); Manufactuer: Texas Instruments; Assembled?: no; Manufacturer Part Number: LMR38020SDDAR; Type: Buck; Package: 8-PowerSOIC
footprint IC-8PowerSOIC
pins: 1 GND (power), 2 EN (in), 3 VIN (power), 4 RT/SYNC (io), 5 FB (io), 6 PG (io), 7 BOOT (power), 8 SW (power), 9 EP (power)

## IC-BUCK-0008
designator U?, comment TPS563212DRLR  Current: 3A
Buck Switching Regulator IC Positive Adjustable 0.6V 1 Output 3A SOT-583; Manufacturer: Texaas Instruments; Assembled?: no; Manufacturer Part Number: TPS563212DRLR; Type: Buck; Package Size: SOT-583
footprint IC-SOT583
pins: 1 PG/SS (io), 2 VIN (power), 3 SW (power), 4 GND (power), 5 BOOT (power), 6 EN (io), 7 MODE (io), 8 FB (in)

## IC-BUCK-0010
designator U?, comment Current: 3A  (hidden comment: TPS62933ODRLR)
Buck Switching Regulator IC Positive Adjustable 0.8V 1 Output 3A SOT-583; Manufacturer: Texas Instruments; Assembled?: no; Manufacturer Part Number: TPS62933ODRLR; Type: Buck
footprint IC-SOT583
pins: 1 RT (io), 2 EN (io), 3 VIN (power), 4 GND (power), 5 SW (out), 6 BST (power), 7 SS/PG (io), 8 FB (io)

## IC-CAN-TRANSCEIVER-0001
designator U?, comment MCP2551-I/SN  Bitrate: 1 Mbps
1/1 Transceiver Half CANbus 8-SOIC
footprint IC-BUCK-8SOIC
pins: 1 TXD (in), 2 Vss (power), 3 Vdd (power), 4 RXD (out), 5 VRef (power), 6 CANL (io), 7 CANH (io), 8 Rs (io)

## IC-CAN-TRANSCEIVER-0002
designator U?, comment TCAN1042HGDRBTQ1  (value not drawn)
1/1 Transceiver CANbus 8-VSON (3x3); Manufacturer: Texas Instrument; CAN Capability: FD-CAN; Manufacturer Part Number: TCAN1042HGDRBTQ1
footprint IC-8-VSON
pins: 1 TXD (io), 2 GND (power), 3 VCC (power), 4 RXD (io), 5 NC (power), 6 CANL (io), 7 CANH (io), 8 STB (in), 9 EP (power)

## IC-CURRENT-0001
designator I?, comment ACS722LLCTR-10AU-T
Current Sensor 10A 1 Channel Hall Effect, Open Loop Unidirectional 8-SOIC (0.154", 3.90mm Width)
footprint IC-CURRENT-0001
pins: 1 IP+ (in), 2 IP+ (in), 3 IP- (in), 4 IP- (in), 5 GND (power), 6 BW_SEL (in), 7 VIOUT (out), 8 VCC (power)

## IC-CURRENT-0002
designator I?, comment MCS1802GS-20-Z
Current Sensor ±20A 1 Channel Hall Effect Bidirectional 8-SOIC (0.154", 3.90mm Width); Manufacturer Part Number: MCS1802GS-20-Z
footprint IC-BUCK-8SOIC
pins: 1 IP+ (in), 2 IP+ (in), 3 IP- (in), 4 IP- (in), 5 GND (power), 6 VOUT (out), 7 FILT (in), 8 VCC (power)

## IC-CURRENT-0003
designator U?, comment TMCS1108A4BQDR  (value not drawn)
Current Sensor 1 Channel Hall Effect Bidirectional 8-SOIC (0.154", 3.90mm Width); Assembled?: no; Manufacturer Part Number: TMCS1108A4BQDR; Manufacturer: TMCS1108A4BQDR; Type: Hall Effect
footprint IC-BUCK-8SOIC
pins: 1 IN+ (in), 2 IN+ (in), 3 IN- (out), 4 IN- (out), 5 GND (power), 6 NC (in), 7 VOUT (out), 8 VS (power)

## IC-CURRENT-0004
designator U?, comment TMCS1108A4BQDR
Current Sensor 1 Channel Hall Effect Bidirectional 8-SOIC (0.154", 3.90mm Width); Assembled?: No; Supply Voltage: 5V; Footprint: 8-SOIC
footprint IC-CURRENT-0001
pins: 1 IN+ (in), 2 IN+ (in), 3 IN- (out), 4 IN- (out), 5 GND (power), 6 NC (hiz), 7 VOUT (out), 8 VS (power)

## IC-GDRV-0001
designator I?, comment UCC27284QDQ1
Gate Drivers Automotive 3-A, 120-V half bridge gate driver with 5-V UVLO and enable 8-SOIC -40 to 125; Manufacturer: Texas Instruments; Assembled?: no; VCC-Max: 16V; VCC-Min: 5.5V; Load Voltage-Max: 120V; Supply Current: 3A; Manufacturer Part Number: UCC27284QDQ1; Package: SOIC-8
footprint IC-BUCK-8SOIC
pins: 1 VDD (power), 2 HB (io), 3 HO (out), 4 HS (io), 5 HI (in), 6 LI (in), 7 VSS (power), 8 LO (out), 9 EP (power)

## IC-LDO-3.3V-0001
designator U?, comment LM1084IS-3.3/NOPB  Current: 5A
Linear Voltage Regulator IC Positive Fixed 1 Output 5A DDPAK/TO-263-3; Vout (fixed): 3.3V; Vin (max): 27V; Package: DDPAK/TO-263-3
footprint DDPAK/TO-263-3
pins: 1 GND (power), 2 OUT (power), 3 IN (power)

## IC-LDO-3.3V-0002
designator U?, comment UA78M33CDCYR  Current: 500 mA
Linear Voltage Regulator IC Positive Fixed 1 Output 500mA SOT-223-4; Vin: 25V; Vout: 3.3V; Package: SOT-223-4
footprint IC-SOT-223-4
pins: 1 IN (power), 2 GND (power), 3 OUT (power)

## IC-LDO-5V-0001
designator U?, comment LM1084IS-5.0/NOPB  Current: 5A
Linear Voltage Regulator IC Positive Fixed 1 Output 5A DDPAK/TO-263-3; VIn: 25V; Vout: 5V; Package: DDPAK/TO-263-3
footprint DDPAK/TO-263-3
pins: 1 GND (power), 2 OUT (power), 3 IN (power)

## IC-LDO-5V-0002
designator U?, comment LD1117-5.0
1A 60dB@(120Hz) Fixed 5V~5V Positive 18V SOT-223  Linear Voltage Regulators (LDO) ROHS; Vout: 5V; Vin: 12V; Current: 1A
footprint SOT-223-3L
pins: 1 Gnd (in), 2 Vout (in), 3 Vin (in), 4 NC (in)

## IC-LDO-5V-0003
designator U?, comment Current: 500 mA  (hidden comment: UA78M05IDCYR)
Linear Voltage Regulator IC Positive Fixed 1 Output 500mA SOT-223-4; Manufacturer: Texas Instruments; Assembled?: no; Manufacturer Part Number: UA78M05IDCYR; Package Size: SOT223-4; Type: Low dropout (LDO)
footprint IC-SOT-223-4
pins: 1 Input (in), 2 Common (power), 3 Output (out)

## IC-MUX-0001
designator I?, comment SN74LVC2G157DCUR  (value not drawn)
Multiplexer 1 x 2:1 8-VSSOP
footprint IC-MUX-8VSSOP
pins: 1 A (in), 2 B (in), 3 ~Y (out), 4 GND (power), 5 Y (out), 6 ~A/B (in), 7 ~G (in), 8 VCC (power)

## IC-MUX-0002
designator U?, comment PCA9546AD
Translating Switch Interface 16-SO; Mfr_Name: Texas Instruments; Copyright: Copyright (C) 2023 Ultra Librarian. All rights reserved.; Manufacturer_Part_Number: PCA9546AD; Digi-Key_Part_Number_1: 296-33506-5-ND; Digi-Key_Part_Number_2: 2156-PCA9546AD-ND; Digi-Key_Part_Number_3: 568-12124-5-ND; RefDes: RefDes; Type: DEV
footprint D16
pins: 1 A0 (in), 2 A1 (in), 3 *RESET (in), 4 SD0, 5 SC0, 6 SD1, 7 SC1, 8 GND (power), 9 SD2, 10 SC2, 11 SD3, 12 SC3, 13 A2 (in), 14 SCL, 15 SDA, 16 VCC (power)

## IC-MUX-0003
designator U?, comment TCA9546APWR
Multiplexer Switch ICs I2C SWITCH 4CH; Mfr_Name: Texas Instruments; Type: DEV; RefDes: RefDes; Copyright: Copyright (C) 2023 Ultra Librarian. All rights reserved.; Manufacturer_Part_Number: TCA9546APWR
footprint PW0016A-IPC_A
pins: 1 A0 (in), 2 A1 (in), 3 RESET_N (in), 4 SD0 (io), 5 SC0 (io), 6 SD1 (io), 7 SC1 (io), 8 GND (power), 9 SD2 (io), 10 SC2 (io), 11 SD3 (io), 12 SC3 (io), 13 A2 (in), 14 SCL (io), 15 SDA (io), 16 VCC (power)

## IC-OPAMP-0001
designator I?, comment LM358EDR2G
IC OPAMP GP 2 CIRCUIT 8SOIC; Manufacturer: onsemi; CMRR: 70dB; Rail-to-Rail?: no; Supply Current - Max: 3mA; VCC-Max: 32V; VCC-Min: 3V; Assembled?: no; Manufacturer Part Number: LM358EDR2G; Package: 8-SOIC
footprint IC-OPAMP-0001
part A pins: 1, 2, 3, 4, 8
part B pins: 4, 5, 6, 7, 8

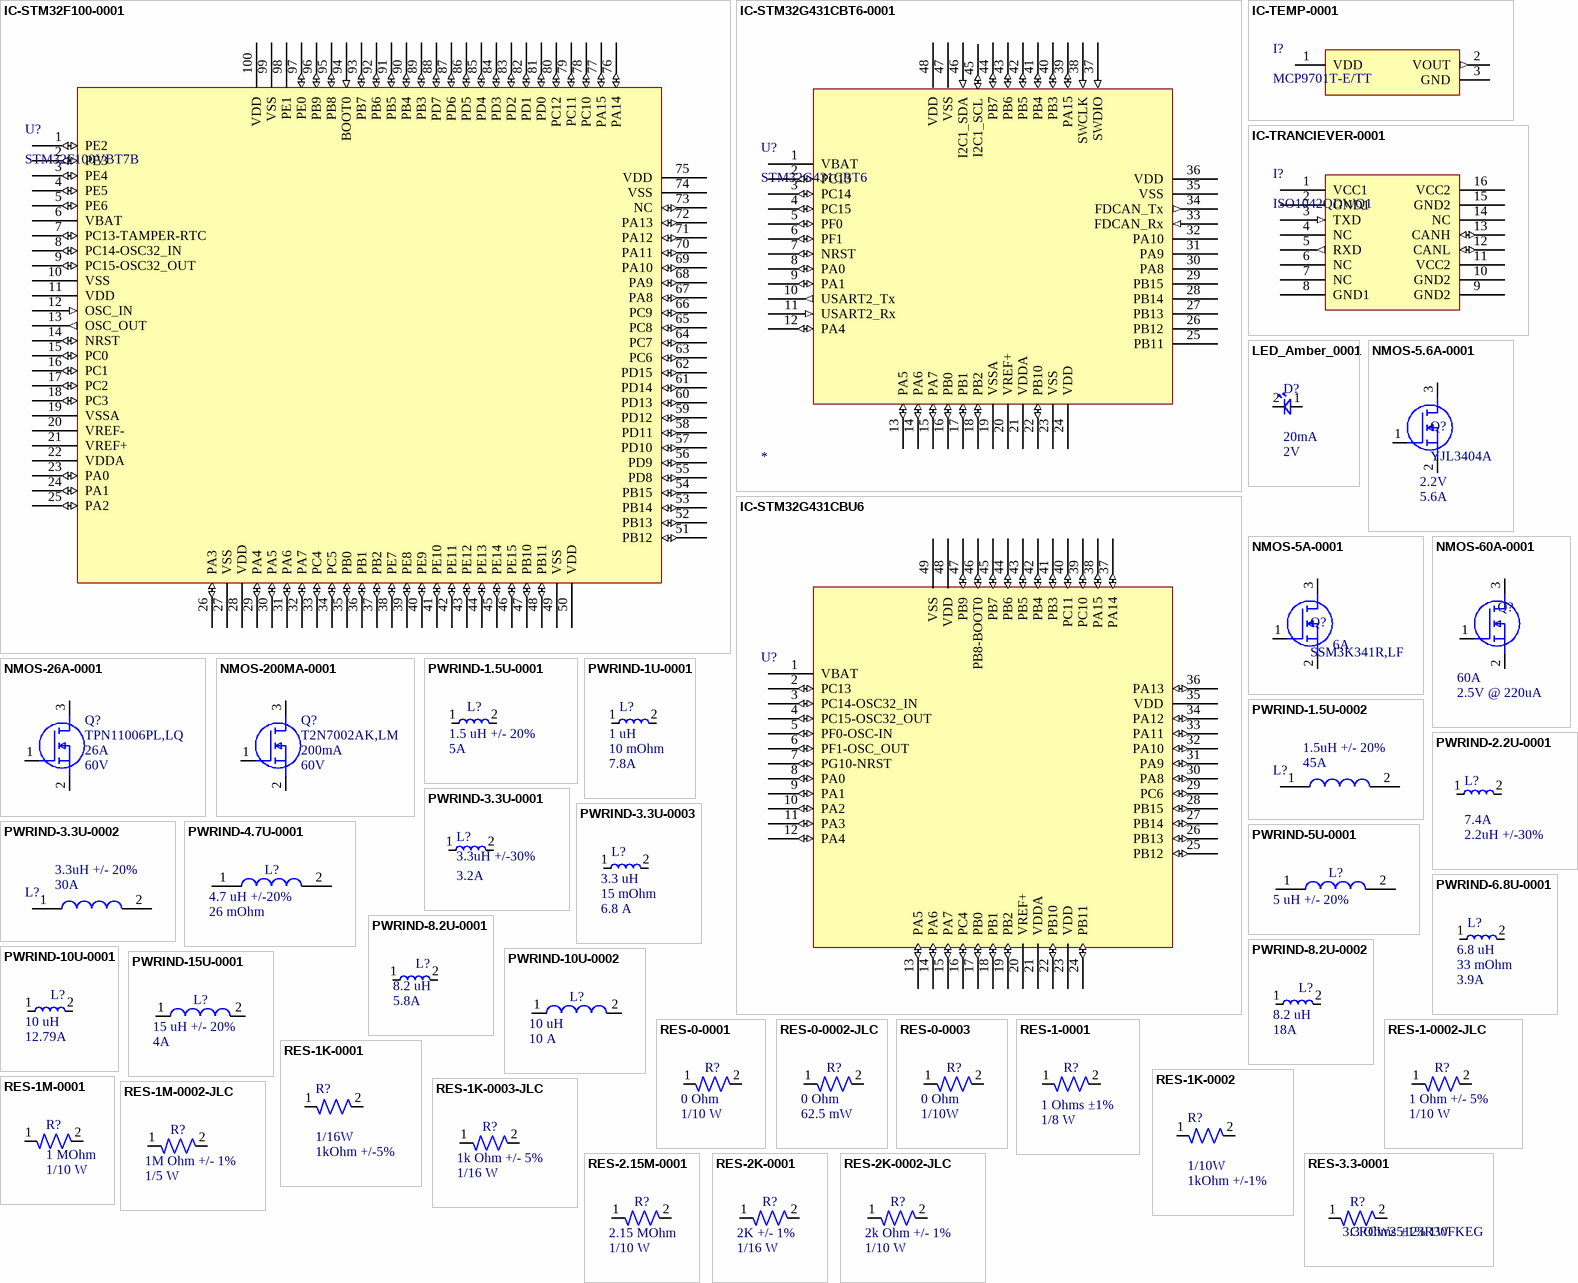
[diagram p3: symbols IC-STM32F100-0001 to RES-3.3-0001]

## IC-STM32F100-0001
designator U?, comment STM32F100VBT7B
ARM® Cortex®-M3 STM32F1 Microcontroller IC 32-Bit Single-Core 24MHz 128KB (128K x 8) FLASH 100-LQFP (14x14); VCC: 2 ~ 3.6V; Manufacturer Part Number: STM32F100VBT7B; Package Size: 100-LQFP
footprint IC-STM32F100-0001 (STM32F100VBT7b)
pins: 1 PE2 (io), 2 PE3 (io), 3 PE4 (io), 4 PE5 (io), 5 PE6 (io), 6 VBAT (power), 7 PC13-TAMPER-RTC (io), 8 PC14-OSC32_IN (io), 9 PC15-OSC32_OUT (io), 10 VSS (power), 11 VDD (power), 12 OSC_IN (in), 13 OSC_OUT (out), 14 NRST (io), 15 PC0 (io), 16 PC1 (io), 17 PC2 (io), 18 PC3 (io), 19 VSSA (power), 20 VREF- (power), 21 VREF+ (power), 22 VDDA (power), 23 PA0 (io), 24 PA1 (io), 25 PA2 (io), 26 PA3 (io), 27 VSS (power), 28 VDD (power), 29 PA4 (io), 30 PA5 (io), 31 PA6 (io), 32 PA7 (io), 33 PC4 (io), 34 PC5 (io), 35 PB0 (io), 36 PB1 (io), 37 PB2 (io), 38 PE7 (io), 39 PE8 (io), 40 PE9 (io), 41 PE10 (io), 42 PE11 (io), 43 PE12 (io), 44 PE13 (io), 45 PE14 (io), 46 PE15 (io), 47 PB10 (io), 48 PB11 (io), 49 VSS (power), 50 VDD (power), 51 PB12 (io), 52 PB13 (io), 53 PB14 (io), 54 PB15 (io), 55 PD8 (io), 56 PD9 (io), 57 PD10 (io), 58 PD11 (io), 59 PD12 (io), 60 PD13 (io), 61 PD14 (io), 62 PD15 (io), 63 PC6 (io), 64 PC7 (io), 65 PC8 (io), 66 PC9 (io), 67 PA8 (io), 68 PA9 (io), 69 PA10 (io), 70 PA11 (io), 71 PA12 (io), 72 PA13 (io), 73 NC (io), 74 VSS (power), 75 VDD (power), 76 PA14 (io), 77 PA15 (io), 78 PC10 (io), 79 PC11 (io), 80 PC12 (io), 81 PD0 (io), 82 PD1 (io), 83 PD2 (io), 84 PD3 (io), 85 PD4 (io), 86 PD5 (io), 87 PD6 (io), 88 PD7 (io), 89 PB3 (io), 90 PB4 (io), 91 PB5 (io), 92 PB6 (io), 93 PB7 (io), 94 BOOT0 (in), 95 PB8 (io), 96 PB9 (io), 97 PE0 (io), 98 PE1 (power), 99 VSS (power), 100 VDD (power)

## IC-STM32G431CBT6-0001
designator U?, comment STM32G431CBT6
ARM® Cortex®-M4F STM32G4 Microcontroller IC 32-Bit Single-Core 170MHz 128KB (128K x 8) FLASH 48-LQFP (7x7); Parameter 1: *
footprint Quad48
pins: 1 VBAT (power), 2 PC13 (io), 3 PC14 (io), 4 PC15 (io), 5 PF0 (io), 6 PF1 (io), 7 NRST (io), 8 PA0 (io), 9 PA1 (io), 10 USART2_Tx (out), 11 USART2_Rx (in), 12 PA4 (io), 13 PA5 (io), 14 PA6 (io), 15 PA7 (io), 16 PB0 (io), 17 PB1 (io), 18 PB2 (io), 19 VSSA (power), 20 VREF+ (power), 21 VDDA (power), 22 PB10 (io), 23 VSS (power), 24 VDD (power), 25 PB11 (power), 26 PB12 (power), 27 PB13 (power), 28 PB14 (power), 29 PB15 (power), 30 PA8 (power), 31 PA9 (power), 32 PA10 (power), 33 FDCAN_Rx (in), 34 FDCAN_Tx (out), 35 VSS (power), 36 VDD (power), 37 SWDIO (in), 38 SWCLK (in), 39 PA15 (io), 40 PB3 (io), 41 PB4 (io), 42 PB5 (io), 43 PB6 (io), 44 PB7 (io), 45 I2C1_SCL (io), 46 I2C1_SDA (in), 47 VSS (power), 48 VDD (power)

## IC-STM32G431CBU6
designator U?, comment STM32G431CBU6  (value not drawn)
128KB 1.71V~3.6V ARM-MSeries 32KB 170MHz FLASH 42 UFQFPN-48(7x7) Microcontroller Units (MCUs/MPUs/SOCs) ROHS; Assembled?: no; Manufacturer Part Number: STM32G431CBU6; Package: UFQFPN-48
footprint MCU-UFQFPN48 (STM32G431CBU6)
pins: 1 VBAT (power), 2 PC13 (io), 3 PC14-OSC32_IN (io), 4 PC15-OSC32_OUT (io), 5 PF0-OSC-IN (io), 6 PF1-OSC_OUT (io), 7 PG10-NRST (io), 8 PA0 (io), 9 PA1 (io), 10 PA2 (io), 11 PA3 (io), 12 PA4 (io), 13 PA5 (io), 14 PA6 (io), 15 PA7 (io), 16 PC4 (io), 17 PB0 (io), 18 PB1 (io), 19 PB2 (io), 20 VREF+ (power), 21 VDDA (power), 22 PB10 (io), 23 VDD (power), 24 PB11 (io), 25 PB12 (io), 26 PB13 (io), 27 PB14 (io), 28 PB15 (io), 29 PC6 (io), 30 PA8 (io), 31 PA9 (io), 32 PA10 (io), 33 PA11 (io), 34 PA12 (io), 35 VDD (power), 36 PA13 (io), 37 PA14 (io), 38 PA15 (io), 39 PC10 (io), 40 PC11 (io), 41 PB3 (io), 42 PB4 (io), 43 PB5 (io), 44 PB6 (io), 45 PB7 (io), 46 PB8-BOOT0 (io), 47 PB9 (io), 48 VDD (power), 49 VSS (power)

## IC-TEMP-0001
designator I?, comment MCP9701T-E/TT
Temperature Sensor Analog, Local -10°C ~ 125°C 19.5mV/°C SOT-23-3; Manufacturer: Microchip Technology; Assembled?: no; VCC-Max: 5.5V; VCC-Min: 3.3V; Manufacturer Part Number: MCP9701T-E/TT; Package: SOT-23-3
footprint IC-TEMP-0001
pins: 1 VDD (power), 2 VOUT (out), 3 GND (power)

## IC-TRANCIEVER-0001
designator I?, comment ISO1042QDWQ1
1/1 Transceiver Full CANbus 16-SOIC
footprint IC-TRANCIEVER-0001
pins: 1 VCC1 (power), 2 GND1 (power), 3 TXD (in), 4 NC, 5 RXD (out), 6 NC, 7 NC, 8 GND1 (power), 9 GND2 (power), 10 GND2 (power), 11 VCC2 (power), 12 CANL (io), 13 CANH (io), 14 NC, 15 GND2 (power), 16 VCC2 (power)

## LED_Amber_0001
designator D?, comment Current Rating: 20mA  Vf: 2V  (hidden comment: 150060AS75000)
CAP CER 0.1UF 100V X7R 0603; Manufacturer: Wurth Electronik; Assembled?: no; Color: Amber; Manufacturer Part Number: 150060AS75000; Package Size: 0603
footprint LED-0603
pins: 1, 2

## NMOS-5.6A-0001
designator Q?, comment YJL3404A  Vgs(th): 2.2V  Drain Current: 5.6A
N-Channel 30 V 5.6A (Ta) 1.2W (Ta) Surface Mount SOT-23; Vdss: 30V; Rds On: 24 mOhm; Manufacturer Part Number: YJL3404A; Package Size: SOT23
footprint NMOS-SOT23-3
pins: 1 G, 2 S, 3 D

## NMOS-5A-0001
designator Q?, comment SSM3K341R,LF  Id: 6A
N-Channel 60 V 6A (Ta) 1.2W (Ta) Surface Mount SOT-23F; Vgs: 2.5V; Vdss: 60V; RdsOn: 36mOhm; Package: SOT-23-3
footprint NMOS-SOT23-3
pins: 1 G, 2 S, 3 D

## NMOS-26A-0001
designator Q?, comment TPN11006PL,LQ  Id-Continuous: 26A  VDS-Max: 60V
N-Channel 60 V 26A (Tc) 610mW (Ta), 61W (Tc) Surface Mount 8-TSON Advance (3.1x3.1); Manufacturer: Toshiba; Rds On-Max: 18.1mOhm; Vgs-Max: 20V; Assembled?: no; Manufacturer Part Number: TPN11006PL,LQ; FET type: N-Channel; Package: 8-TSON Advance
footprint NMOS-8TSON
pins: 1 G, 2 S, 3 D

## NMOS-60A-0001
designator Q?, comment Drain Current: 60A  Vgs: 2.5V @ 220uA  (hidden comment: TPH7R006PL,L1Q)
N-Channel 60 V 60A (Tc) 81W (Tc) Surface Mount 8-SOP Advance (5x5); Vdss: 60V; Vgs(Max): 20V; Package: 8-PowerVDFN
footprint NMOS-8PowerVDFN
pins: 1 G, 2 S, 3 D

## NMOS-200MA-0001
designator Q?, comment T2N7002AK,LM  Id-Continuous: 200mA  VDS-Max: 60V
MOSFET N-CH 60V 200MA SOT23; Manufacturer: Toshiba; FET type: N-Channel; Rds On-Max: 3.9Ohm; Vgs-Max: 20V; Assembled?: no; Manufacturer Part Number: T2N7002AK,LM; Package: SOT-23-3
footprint NMOS-SOT23-3
pins: 1 G, 2 S, 3 D

## PWRIND-1.5U-0001
designator L?, comment Inductance: 1.5 uH +/- 20%  Saturation Current: 5A  (hidden comment: SRP3212-1R5M)
1.5 µH Shielded Drum Core, Wirewound Inductor 4.4 A 53mOhm Max 1210 (3225 Metric); Manufacturer: Bourns Inc.; Assembled?: Yes; Manufacturer Part Number: SRP3212-1R5M; Package Size: 1210; DC Resistance: 53 mOhm
footprint IND-1210
pins: 1, 2

## PWRIND-1.5U-0002
designator L?, comment Saturation Current: 45A  Inductance: 1.5uH +/- 20%  (hidden comment: SRP1265A-1R5M)
1.5 µH Shielded Drum Core, Wirewound Inductor 27 A 3mOhm Max Nonstandard; Manufacturer: Bourns Electronics; Type: DEV; DC Resistnace: 3.0mOhm max; Copyright: Copyright (C) 2022 Ultra Librarian. All rights reserved.; Manufacturer Part Number: SRP1265A-1R5M; Dimensions: 12.5x13.5x6.2
footprint PWRIND-1.5U-0002
pins: 1, 2

## PWRIND-1U-0001
designator L?, comment Inductance: 1 uH  DCR: 10 mOhm  DCI: 7.8A  (hidden comment: SRN8040-1R0Y)
1 µH Semi-Shielded Drum Core, Wirewound Inductor 7.8 A 10mOhm Max Nonstandard; Isat: 11A; Tolerance: 30%; Assembled?: No
footprint PWRIND-6.8U-0001
pins: 1, 2

## PWRIND-2.2U-0001
designator L?, comment Saturation Current: 7.4A  Inductance: 2.2uH +/-30%  (hidden comment: SRN8040-2R2Y)
2.2 µH Semi-Shielded Drum Core, Wirewound Inductor 6.3 A 13mOhm Max Nonstandard; Manufacturer: Bourns Inc.; Assembled?: no; DC Resistance: 13mOhms; Manufacturer Part Number: SRN8040-2R2Y; Dimensions: 8x8x4 (mm)
footprint PWRIND-2.2U-0001
pins: 1, 2

## PWRIND-3.3U-0001
designator L?, comment Saturation Current: 3.2A  Inductance: 3.3uH +/-30%  (hidden comment: SRN6045-3R3Y)
3.3 µH Semi-Shielded Drum Core, Wirewound Inductor 3.2 A 30.2mOhm Max Nonstandard; Manufacturer: Bourns Inc.; Assembled?: no; Manufacturer Part Number: SRN6045-3R3Y; Dimensions: 6x6x4.5 (mm); DC Resistance: 30.2mOhm
footprint PWRIND-3.3U-0001
pins: 1, 2

## PWRIND-3.3U-0002
designator L?, comment Saturation Current: 30A  Inductance: 3.3uH +/- 20%  (hidden comment: SRP1265A-3R3M)
3.3 µH Shielded Drum Core, Wirewound Inductor 18 A 6.8mOhm Max Nonstandard; Manufacturer: Bourns Electronics; Type: DEV; Copyright: Copyright (C) 2022 Ultra Librarian. All rights reserved.; Manufacturer Part Number: SRP1265A-3R3M; Dimensions: 12.5x13.5x6.2; DC Resistance: 6.8mOhm max
footprint PWRIND-3.3U-0002
pins: 1, 2

## PWRIND-3.3U-0003
designator L?, comment Inductance: 3.3 uH  DCR: 15 mOhm  DCI: 6.8 A  (hidden comment: SRR1240-3R3Y)
3.3 µH Shielded Drum Core, Wirewound Inductor 6.8 A 15mOhm Max Nonstandard; Isat: 6.5A; Tolerance: 30%; Assembled?: No
footprint PWRIND-3.3U-0003
pins: 1, 2

## PWRIND-4.7U-0001
designator L?, comment Inductance: 4.7 uH +/-20%  DCR: 26 mOhm  (hidden comment: SRN6045TA-4R7M)
4.7 µH Semi-Shielded Drum Core, Wirewound Inductor 4.5 A 26mOhm Nonstandard; Saturation Current: 6.8A; Current Rating: 4.5A
footprint PWRIND-4.7U-0001
pins: 1, 2

## PWRIND-5U-0001
designator L?, comment Inductance: 5 uH +/- 20%  (hidden comment: SRR1206-5R0ML)
5 µH Shielded Drum Core, Wirewound Inductor 4.7 A 22mOhm Max Nonstandard; Current: 4.7A; Saturation Current: 8.3A; DCR: 22mOhm
footprint PWRIND-5U-0001
pins: 1, 2

## PWRIND-6.8U-0001
designator L?, comment Inductance: 6.8 uH  DCR: 33 mOhm  DCI: 3.9A  (hidden comment: SRN8040-6R8Y)
6.8 µH Semi-Shielded Drum Core, Wirewound Inductor 3.9 A 33mOhm Max Nonstandard; Isat: 4.2A; Tolerance: 30%; Assembled?: No
footprint PWRIND-6.8U-0001
pins: 1, 2

## PWRIND-8.2U-0001
designator L?, comment Inductance: 8.2 uH  DCI: 5.8A  (hidden comment: SDR1307-8R2ML)
8.2 µH Unshielded Drum Core, Wirewound Inductor 5.8 A 19mOhm Max Nonstandard; Manufacturer: Bourns Inc.; Tolerance: +/- 20%; Isat: 9.8A; Assembled?: No; Manufacturer Part Number: SDR1307-8R2ML; DCR: 19 mOhm
footprint PWRIND-8.2U-0001
pins: 1, 2

## PWRIND-8.2U-0002
designator L?, comment Inductance: 8.2 uH  DCI: 18A  (hidden comment: IHLP6767GZER8R2M01)
8.2 µH Shielded Molded Inductor 18 A 10.66mOhm Max Nonstandard; Isat: 25A; Tolerance: +/-20%; DCR: 10.66 mOhm
footprint PWRIND-8.2U-0002
pins: 1, 2

## PWRIND-10U-0001
designator L?, comment Inductance: 10 uH  DCI: 12.79A  (hidden comment: HC1-100-R)
10 µH Unshielded Drum Core, Wirewound Inductor 12.79 A 5.7mOhm Max Nonstandard; Isat: 5.3A; Tolerance: +/- 15%; DCR: 5.7mOhm
footprint PWRIND-10U-0001
pins: 1, 2

## PWRIND-10U-0002
designator L?, comment Inductance: 10 uH  DCI: 10 A  (hidden comment: SRP1270-100M)
10 µH Shielded Drum Core, Wirewound Inductor 10 A 16.8mOhm Max Nonstandard; Tolerance: +/- 20%; Isat: 16A; Assembled?: No; DCR: 16.8 mOhm
footprint PWRIND-10U-0002
pins: 1, 2

## PWRIND-15U-0001
designator L?, comment Inductance: 15 uH +/- 20%  Saturation Current: 4A  (hidden comment: SRN8040TA-150M)
15 µH Semi-Shielded Drum Core, Wirewound Inductor 3.6 A 50mOhm Nonstandard
footprint PWRIND-15U-0001
pins: 1, 2

## RES-0-0001
designator R?, comment Resistance: 0 Ohm  Power: 1/10 W  (hidden comment: RMCF0603ZT0R00)
0 Ohms Jumper 0.1W, 1/10W Chip Resistor 0603 (1608 Metric) Automotive AEC-Q200 Thick Film; Package Size: 0603
footprint RES-0603
pins: 1, 2

## RES-0-0002-JLC
designator R?, comment Resistance: 0 Ohm  Power: 62.5 mW  (hidden comment: RC0402FR-070RL)
62.5mW Thick Film Resistors 50V -55℃~+155℃ 0Ω 0402 Chip Resistor - Surface Mount ROHS; assembled?: yes; JLC part number: C106231
footprint RES-0402
pins: 1, 2

## RES-0-0003
designator R?, comment Resistance: 0 Ohm  Power: 1/10W  (hidden comment: RESC1607X60N)
0 Ohms Jumper Chip Resistor 0603 (1608 Metric) Moisture Resistant Thick Film; assembled?: yes; JLC part number: C106231
footprint RESC1607X60N
pins: 1, 2

## RES-1-0001
designator R?, comment Power: 1/8 W  Resistance: 1 Ohms ±1%  (hidden comment: RNCP0603FTD1R00)
1 Ohms ±1% 0.125W, 1/8W Chip Resistor 0603 (1608 Metric) Anti-Sulfur Thin Film
footprint RES-0603
pins: 1, 2

## RES-1-0002-JLC
designator R?, comment Resistanvce: 1 Ohm +/- 5%  Power: 1/10 W  (hidden comment: ERJ2GEJ1R0X)
100mW Thick Film Resistors ±5% -100ppm/℃~+600ppm/℃ -55℃~+155℃ 1Ω 0402 Chip Resistor - Surface Mount ROHS; assembled?: yes; JLC part number: C412890
footprint RES-0402
pins: 1, 2

## RES-1K-0001
designator R?, comment Power Rating: 1/16W  Resistance: 1kOhm +/-5%  (hidden comment: RC0402JR-071KP)
RES SMD 1K OHM 5% 1/16W 0402; Manufacturer: YAGEO; Assembled?: no; Manufacturer Part Number: RC0402JR-071KP; Package Size: 0402
footprint RES-0402
pins: 1, 2